# EAGLE library part LM25576QMH_NOPB (library LM25576QMH_NOPB)
Texas Instruments, LM25576QMH/NOPB Step-Down Switching Regulator 3A Adjustable, 1.225 40 V, 20-Pin HTSSOP Source: Datasheet <http://www.ti.com/lit/gpn/lm25576-q1>
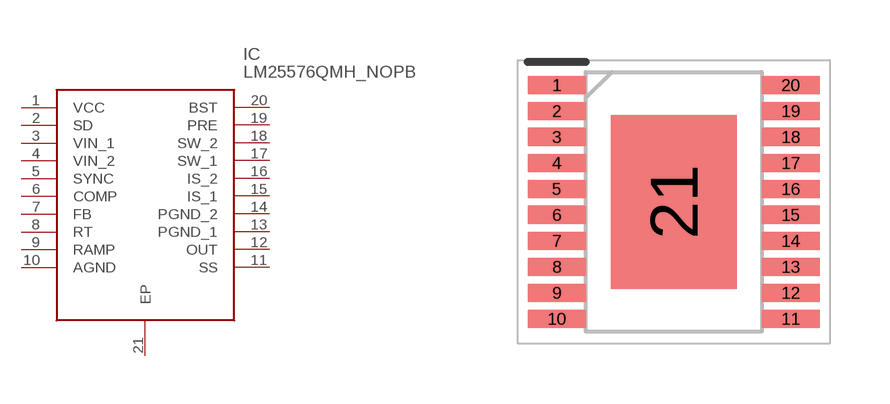
[diagram p0: symbol with the pads of SOP65P640X110-21N; footprint SOP65P640X110-21N]

Designator prefix IC

## LM25576QMH_NOPB (Description: Texas Instruments, LM25576QMH/NOPB Step-Down Switching Regulator 3A Adjustable, 1.225 40 V, 20-Pin HTSSOP; Height: 1.1mm; Manufacturer_Name: Texas Instruments; Manufacturer_Part_Number: LM25576QMH/NOPB; Mouser_Part_Number: 926-LM25576QMH/NOPB; Mouser_Price-Stock: https://www.mouser.co.uk/ProductDetail/Texas-Instruments/LM25576QMH-NOPB?qs=X1J7HmVL2ZGNdbTbFc93WQ%3D%3D)  [SOP65P640X110-21N]
1  VCC
2  SD
3  VIN_1
4  VIN_2
5  SYNC
6  COMP
7  FB
8  RT
9  RAMP
10  AGND
11  SS
12  OUT
13  PGND_1
14  PGND_2
15  IS_1
16  IS_2
17  SW_1
18  SW_2
19  PRE
20  BST
21  EP

## Footprint SOP65P640X110-21N (pad centres in mm)
PWP0020A
smd 1.45 x 0.45: 1 -2.925,2.925; 2 -2.925,2.275; 3 -2.925,1.625; 4 -2.925,0.975; 5 -2.925,0.325; 6 -2.925,-0.325; 7 -2.925,-0.975; 8 -2.925,-1.625; 9 -2.925,-2.275; 10 -2.925,-2.925; 11 2.925,-2.925; 12 2.925,-2.275; 13 2.925,-1.625; 14 2.925,-0.975; 15 2.925,-0.325; 16 2.925,0.325; 17 2.925,0.975; 18 2.925,1.625; 19 2.925,2.275; 20 2.925,2.925
smd 3.15 x 4.35: 21 0,0